# Altium schematic symbol library IR2101SPBF.Schlib: 1 symbol
Pins are listed as number, name and electrical type; pins without a type are passive.

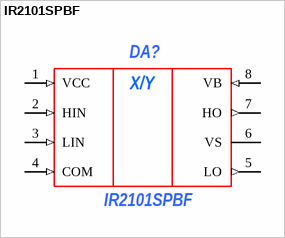
[diagram p0: symbol IR2101SPBF]

## IR2101SPBF
designator DA?
Драйвер ключей верхнего и нижнего уровней; ComponentLink1Description: *; ComponentLink1URL: *; ComponentLink2Description: *; ComponentLink2URL: *; ManufacturerPartNumber: IR2101SPBF; Power/Voltage: *; Rem: *; TKE: *; Tolerance: *; TU/GOST: *; Value: *; Корпус: *; Примечание: *; Manufacturer: *; Author: *; Type: *
pins: 1 VCC (in), 2 HIN (in), 3 LIN (in), 4 COM (in), 5 LO (out), 6 VS (power), 7 HO (out), 8 VB (in)
text: X/Y